# EAGLE library part D7S (library e14_Rpi3_RevA)
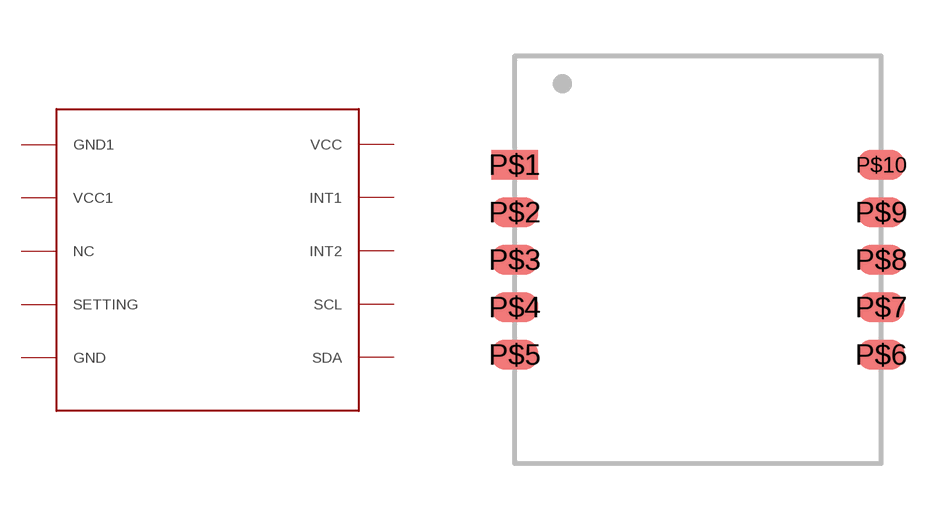
[diagram p1: symbol with the pads of D7S; footprint D7S]

Designator prefix -

## D7S  [D7S]
P$1  VCC
P$2  INT1
P$3  INT2
P$4  SCL
P$5  SDA
P$6  GND
P$7  SETTING
P$8  NC
P$9  VCC1
P$10  GND1

## Footprint D7S (pad centres in mm)
smd 1.25 x 0.8: P$1 0,7.99; P$2 0,6.72; P$3 0,5.45; P$4 0,4.18; P$5 0,2.91; P$6 9.8,2.91; P$7 9.8,4.18; P$8 9.8,5.45; P$9 9.8,6.72; P$10 9.8,7.99